# Altium schematic symbol library SSW-112-01-L-S.SchLib: 1 symbol
Pins are listed as number, name and electrical type; pins without a type are passive.

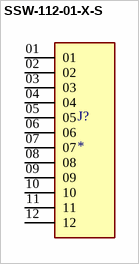
[diagram p0: symbol SSW-112-01-X-S]

## SSW-112-01-X-S
designator J?
CONN RCPT 12POS 0.1 GOLD PCB; MP: SSW-112-01-X-S; MF: {'manufacturer': u'Samtec'}; Price: None; Package: None; Availability: Unavailable; Value: *
footprint SAMTEC_SSW-112-01-X-S
pins: 01, 02, 03, 04, 05, 06, 07, 08, 09, 10, 11, 12